# EAGLE library part 171011801 (library WPME-VDLM)
MagI³C-VDLM Variable Step Down LGA Module Characteristics Low conducted and radiated EMI (compliant to EN55022 class B / CISPR-22) LGA-12EP For direct connection to 24 V industrial voltage network Low profile LGA-package Ideal for space constrained applications 2 solder cycles supported LGA-16EP Low profile LGA-package Stand alone solution (CIN and COUT integrated, 2 external components to set VOUT) Ideal for space constrained applications 2 solder cycles supported Applications Point-of-Load DC-DC applications from 18V, 15V, 12V, 9V, 5V industrial rails Test and measurement equipment Medical equipment Interface supply Supply of microcontrollers, microprocessors, DSPs, FPGAs Industrial electronics Telecommunications <https://www.we-online.com/components/media/o683498v209%20Family_Magic-VDLM_171013801_171011801.jpg> Details see: www.we-online.com/en/components/products/MAGIC-VDLM <www.we-online.com/catalog/MAGIC-VDLM/?utm_source=eagle_model&utm_medium=description_link&utm_campaign=eisos_eagle> Updated by Ella Wu 2024-11-12 2024(C) Wurth Elektronik
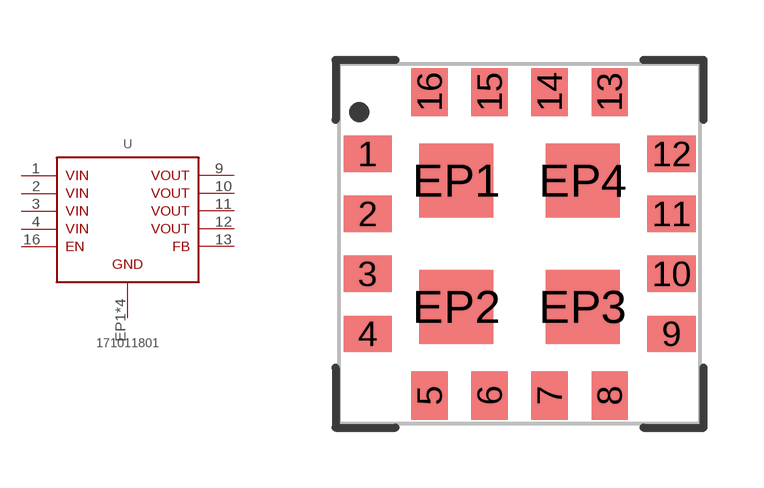
[diagram p6: symbol with the pads of WPME-VDLM_LGA-16EP; footprint WPME-VDLM_LGA-16EP]

Designator prefix U

## 171011801 (DATASHEET-URL: https://www.we-online.com/redexpert/spec/171011801?ae; HEIGHT: 3mm; I-OUTPUT: 1A; LENGTH: 9mm; MOUNT: SMT; PART-NUMBER: 171011801; SIZE: LGA-16EP; V-INPUT: 4 - 18Vin; V-OUTPUT: 0.8 - 17Vout; VALUE: 4 - 18Vin, 0.8 - 17Vout, 1A; WIDTH: 9mm)  [WPME-VDLM_LGA-16EP]
1  VIN1  pwr
2  VIN2  pwr
3  VIN3  pwr
4  VIN4  pwr
9  9VOUT  pwr
10  10VOUT  pwr
11  11VOUT  pwr
12  12VOUT  pwr
13  13FB  in
16  16EN  in
EP1  GND  pas
EP2  GND  pas
EP3  GND  pas
EP4  GND  pas

## Footprint WPME-VDLM_LGA-16EP (pad centres in mm)
MagI³C-VDLM Variable Step Down LGA Module Size : LGA-16EP, SMT LxWxH=9mm x 9mm x 3mm
smd 1.2 x 0.9: 1 -3.8,2.25; 2 -3.8,0.75; 3 -3.8,-0.75; 4 -3.8,-2.25; 9 3.8,-2.25; 10 3.8,-0.75; 11 3.8,0.75; 12 3.8,2.25
smd 0.9 x 1.2: 5 -2.25,-3.8; 6 -0.75,-3.8; 7 0.75,-3.8; 8 2.25,-3.8; 13 2.25,3.8; 14 0.75,3.8; 15 -0.75,3.8; 16 -2.25,3.8
smd 1.85 x 1.85: EP1 -1.58,1.58; EP2 -1.58,-1.58; EP3 1.58,-1.58; EP4 1.58,1.58